# Altium schematic symbol library ADP7102ACPZ.SchLib: 1 symbol
Pins are listed as number, name and electrical type; pins without a type are passive.

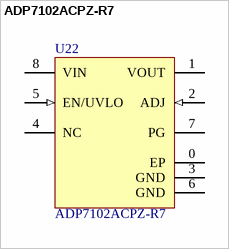
[diagram p0: symbol ADP7102ACPZ-R7]

## ADP7102ACPZ-R7
designator U22
300 mA, Low Noise, CMOS LDO, 3.3 to 20 V Vin, 1.22 to Vin-Vdo Vout, Industrial, 8-pin SON (CP-8-5), Reel; Manufacturer: Analog Devices; Vin (min) (V): 3.3; Vin (max) (V): 20; Vout Adjustable Range: 1.22V to 19V; Iout max: 300mA; Supply Current IGND @ Small Load: 400uA; ComponentLink3URL: http://www.analog.com/static/imported-files/packages/PKG_PDF/LFCSP(CP)/CP_8_5.pdf; ComponentLink3Description: Package Specification; ComponentLink1URL: http://www.analog.com/en/index.html; ComponentLink4URL: Product URL:http://www.analog.com/en/ADP7102/productSearch.html; DatasheetVersion: Rev. A; PartNumber: ADP7102ACPZ-R7; PackageDescription: 8-Pin Lead Frame Chip Scale Package, Body 3 x 3 mm, Pitch 0.5 mm; Packing: Reel; ComponentLink2Description: Datasheet; ComponentLink4Description: URL Link1; ComponentLink1Description: Manufacturer URL; ComponentLink2URL: http://www.analog.com/static/imported-files/data_sheets/ADP7102.pdf; Mounting Technology: Surface Mount; PackageVersion: 031208-A, 03/2008; PackageReference: CP-8-5
footprint ADP7102ACPZ-R7 (SON, 8-Leads, Body 3x3mm, Pitch 0.5mm, Thermal Pad 1.74x2.38mm)
pins: 0 EP (power) "Exposed Pad. Exposed paddle on the bottom of the package. The EPAD enhances thermal performance and is electrically connected to GND inside the package. It is highly recommended that the EPAD be connected to the ground plane (See Datasheet)", 1 VOUT (power) "Regulated Output Voltage. Bypass VOUT to GND with a 1 ¦ÌF or greater capacitor.", 2 ADJ (in) "Adjust Input (ADJ). An external resistor divider sets the output voltage. This function applies to adjustable voltages only.", 3 GND (power) "Ground.", 4 NC "Do Not Connect to this Pin.", 5 EN/UVLO (in) "Enable Input (EN). Drive EN high to turn on the regulator; drive EN low to turn off the regulator. For automatic startup, connect EN to VIN. Programmable Undervoltage Lockout (UVLO). When the programmable UVLO function is (See Datasheet)", 6 GND (power) "Ground.", 7 PG (oc) "Power Good. This open-drain output requires an external pull-up resistor to VIN or VOUT. If the part is in shutdown, current limit, thermal shutdown, or falls below 90% of the nominal output voltage, PG immediately (See Datasheet)", 8 VIN (power) "Regulator Input Supply. Bypass VIN to GND with a 1 ¦ÌF or greater capacitor."